# Altium integrated library Motor.IntLib: 2 symbols
Pins are listed as number, name and electrical type; pins without a type are passive.

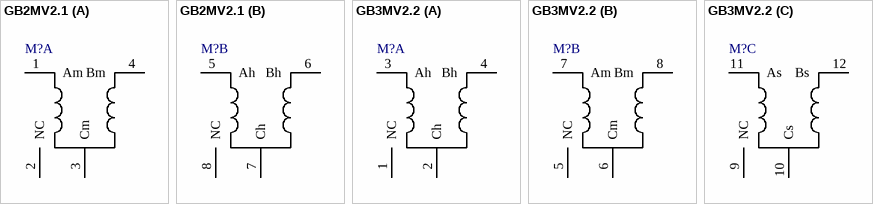
[diagram p0: symbols GB2MV2.1 to GB3MV2.2]

## GB2MV2.1
designator M?, comment GB3MV2.2  (value not drawn)
Soprod Gear Box, 2 motors 102.02.xxx; Value: GB3MV2.2
footprint GB2MV2.1 (Soprod Gear Box, 2 motors 102.02.xxx, Option B)
part A pins: 1 Am "Coil CCW", 2 NC "Not Connected", 3 Cm "Common", 4 Bm "Coil CW"
part B pins: 5 Ah "Coil CCW", 6 Bh "Coil CW", 7 Ch "Common", 8 NC "Not Connected"

## GB3MV2.2
designator M?  (value not drawn)
Soprod Gear Box, 3 motors 103.02.xxx; Value: GB3MV2.2
footprint GB3MV2.2 (Soprod Gear Box, 3 motors 103.02.xxx)
footprint GB3MV2.2a (Soprod Gear Box, 3 motors 103.02.xxx)
part A pins: 1 NC "Not Connected", 2 Ch "Common", 3 Ah "Coil CW", 4 Bh "Coil CCW"
part B pins: 5 NC "Not Connected", 6 Cm "Common", 7 Am "Coil CW", 8 Bm "Coil CCW"
part C pins: 9 NC "Not Connected", 10 Cs "Common", 11 As "Coil CW", 12 Bs "Coil CCW"